# Altium footprint library LM2596TVADJG.PcbLib: 1 footprints
Each footprint in its own frame and in the unit in brackets; x right, y up, seen from the top. Pads: shape width x height; smd on the part's side, far side on the other; paste and mask are expansions set on the pad; w line width, h text height; cw(c..) or ccw(c..) is an arc to the next point about the centre after c.
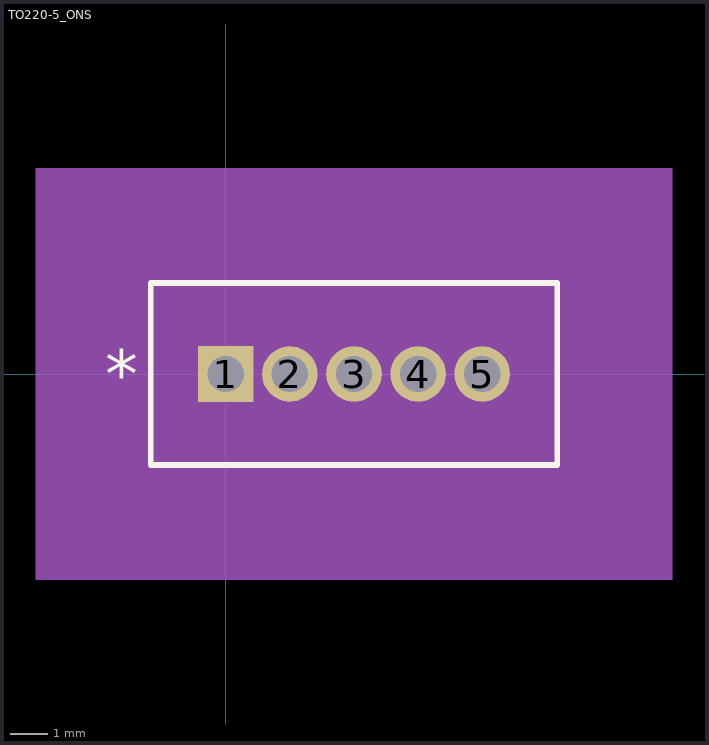
[diagram p0: the footprint, top view; thin cyan lines are the x and y axes]

## TO220-5_ONS [mil]
pads (5):
  rect 58x58 hole 38 mask+0: 1(0,0)
  round 58 hole 38 mask+0: 2(67,0) 3(134,0) 4(201,0) 5(268,0)
Top Overlay:
  lines w6: -78.5,-95 346.5,-95 346.5,95 -78.5,95 -78.5,-95
  text "*" at -126,-25 h50
Mechanical 5:
  region: 466.5,-215 -198.5,-215 -198.5,215 466.5,215
Mechanical 13:
  lines w1: -73.5,-90 341.5,-90 341.5,90 -73.5,90 -73.5,-90
  text "*" at -76,-25 h50
Mechanical 15:
  region: 351.5,-100 -83.5,-100 -83.5,100 351.5,100
  lines w6: -83.5,-100 -83.5,100 351.5,100 351.5,-100 -83.5,-100
3D body "TO220-5_ONS.step": height 612.99, standoff -212.01, extent -73.5,-90 341.5,90